# Altium schematic symbol library Op_amp.SchLib: 10 symbols
Pins are listed as number, name and electrical type; pins without a type are passive.

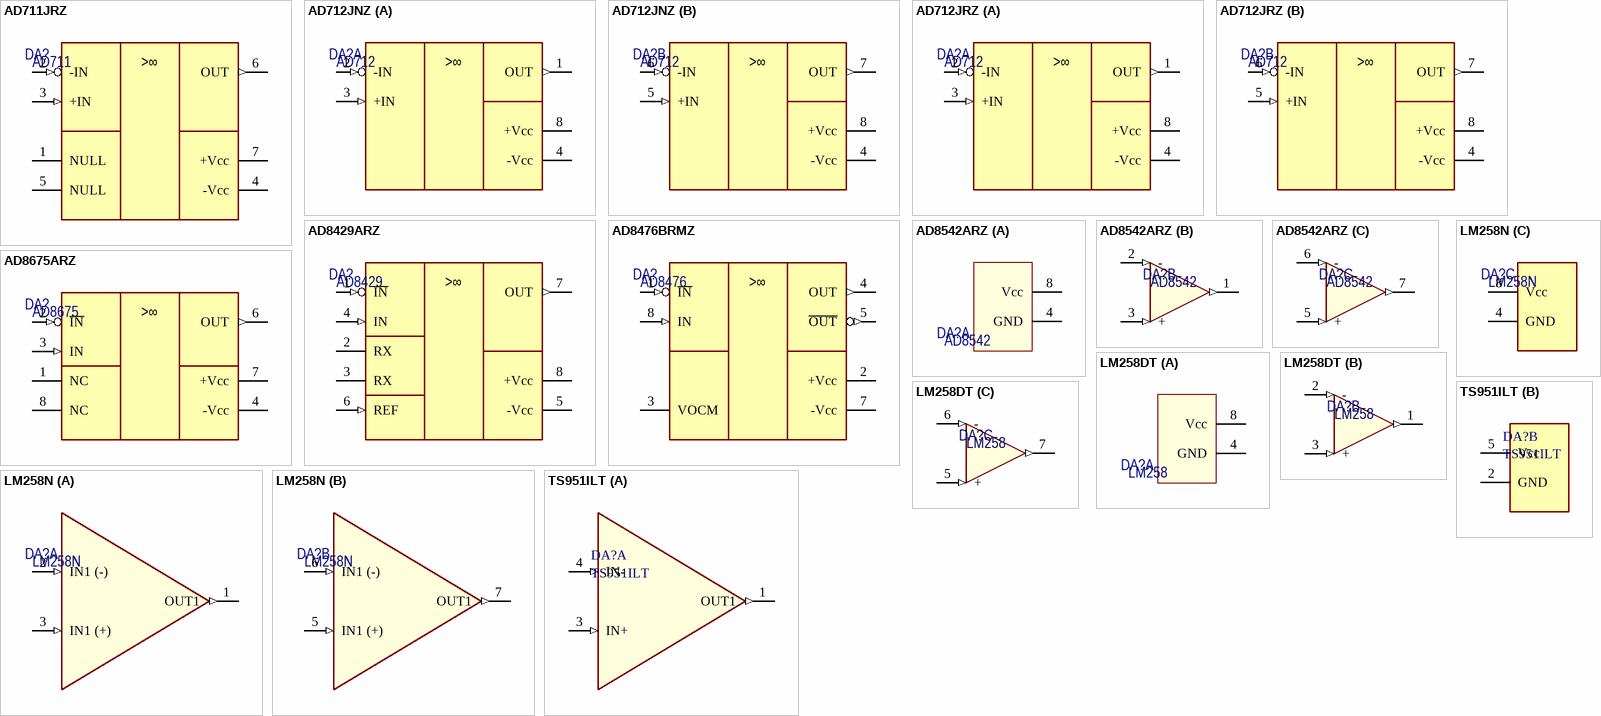
[diagram p0: symbols AD711JRZ to TS951ILT]

## AD711JRZ
designator DA?, comment AD711
Оperational amplifier; Manufacturer: Analog Devices Inc; ManufacturerPartNumber: AD711JRZ; ComponentLink1URL: http://www.analog.com/static/imported-files/data_sheets/AD711.pdf; ComponentLink1Description: Datasheet; Package: SOIC-8; Price: 58,20; Supplier: Аргуссофт
footprint AD711JRZ (8-Lead Standard Small Outline Package [SOIC]  Narrow Body  (RN-8))
pins: 1 NULL, 2 -IN (in), 3 +IN (in), 4 -Vcc (power), 5 NULL, 6 OUT (out), 7 +Vcc (power) "+V"
text: >∞

## AD712JNZ
designator DA?, comment AD712
Оperational amplifier; Manufacturer: Analog Devices Inc; ManufacturerPartNumber: AD712JNZ; ComponentLink1URL: http://www.analog.com/static/imported-files/data_sheets/AD712.pdf; ComponentLink1Description: Datasheet; Package: SOIC-8; Price: 230; Supplier: Аргуссофт; Note: AD712
footprint DIP8
part A pins: 1 OUT (out), 2 -IN (in), 3 +IN (in), 4 -Vcc (power), 8 +Vcc (power) "+V"
part B pins: 4 -Vcc (power), 5 +IN (in), 6 -IN (in), 7 OUT (out), 8 +Vcc (power) "+V"
part A text: >∞
part B text: >∞

## AD712JRZ
designator DA?, comment AD712
Оperational amplifier; Manufacturer: Analog Devices Inc; ManufacturerPartNumber: AD711JRZ; ComponentLink1URL: http://www.analog.com/static/imported-files/data_sheets/AD712.pdf; ComponentLink1Description: Datasheet; Package: SOIC-8; Price: 230; Supplier: Аргуссофт; Note: AD712
footprint AD711JRZ (8-Lead Standard Small Outline Package [SOIC]  Narrow Body  (RN-8))
part A pins: 1 OUT (out), 2 -IN (in), 3 +IN (in), 4 -Vcc (power), 8 +Vcc (power) "+V"
part B pins: 4 -Vcc (power), 5 +IN (in), 6 -IN (in), 7 OUT (out), 8 +Vcc (power) "+V"
part A text: >∞
part B text: >∞

## AD8429ARZ
designator DA?, comment AD8429
Оperational amplifier; Manufacturer: Analog Devices Inc; ManufacturerPartNumber: AD8429ARZ; Package: SOIC-8; ComponentLink1URL: http://www.analog.com/static/imported-files/data_sheets/AD8429.pdf; ComponentLink1Description: Datasheet; Price: 175,76; Supplier: Аргуссофт
footprint AD711JRZ (8-Lead Standard Small Outline Package [SOIC]  Narrow Body  (RN-8))
pins: 1 ~{IN} (in) "-IN", 2 RX "RG", 3 RX "RG", 4 IN (in) "+IN", 5 -Vcc (power) "-Vs", 6 REF (in), 7 OUT (out), 8 +Vcc (power) "+Vs"
text: >∞

## AD8476BRMZ
designator DA?, comment AD8476
Оperational amplifier; Manufacturer: Analog Devices Inc; ManufacturerPartNumber: AD8476BRMZ; Package: MSOP-8; ComponentLink1URL: http://www.analog.com/static/imported-files/data_sheets/AD8476.pdf; ComponentLink1Description: Datasheet; Price: 126,49; Supplier: Аргуссофт
footprint AD8476BRMZ (8-Lead Mini Small Outline Package [MSOP]   (RM-8))
pins: 1 ~{IN} (in) "Negative input", 2 +Vcc (power) "+Vs", 3 VOCM "Output COmmon-MOde Adjust", 4 OUT (out) "Noninverting Output", 5 ~{OUT} (out) "Inverting Output", 7 -Vcc (power) "-Vs", 8 IN (in) "Positive input"
text: >∞

## AD8542ARZ
designator DA?, comment AD8542
ManufacturerPartNumber: AD8542ARZ; Manufacturer: *; Note: *; Price: *; Supplier: *
footprint AD8542ARZ (SOIC, 8-Leads, Body 4,90x3,90mm)
part A pins: 4 GND, 8 Vcc
part B pins: 1 OUT (out), 2 - (in), 3 + (in)
part C pins: 5 + (in), 6 - (in), 7 OUT (out)

## AD8675ARZ
designator DA?, comment AD8675
Оperational amplifier; Manufacturer: Analog Devices Inc; ManufacturerPartNumber: AD8675ARZ; Package: SOIC-8; ComponentLink1URL: http://www.analog.com/static/imported-files/data_sheets/AD8675.pdf; ComponentLink1Description: Datasheet; Supplier: Аргуссофт; Price: 70,88
footprint AD711JRZ (8-Lead Standard Small Outline Package [SOIC]  Narrow Body  (RN-8))
pins: 1 NC "NULL", 2 ~{IN} (in) "-IN", 3 IN (in) "+IN", 4 -Vcc (power) "V-", 6 OUT (out), 7 +Vcc (power) "V+", 8 NC "NULL"
text: >∞

## LM258DT
designator DA?, comment LM258
ManufacturerPartNumber: LM258DT; Manufacturer: Linear; ComponentLink1URL: http://www.promelec.ru/pdf/LM158_LM258_LM358.pdf; ComponentLink1Description: Datasheet; Price: 10.5; Note: *; Supplier: Промэлектроника
footprint AD8542ARZ (SOIC, 8-Leads, Body 4,90x3,90mm)
part A pins: 4 GND, 8 Vcc
part B pins: 1 OUT (out), 2 - (in), 3 + (in)
part C pins: 5 + (in), 6 - (in), 7 OUT (out)

## LM258N
designator DA?
Оperational amplifier x2; Manufacturer: Analog Devices Inc; Package: DIP-8; ComponentLink1URL: https://www.fairchildsemi.com/datasheets/LM/LM258.pdf; ComponentLink1Description: Datasheet; Supplier: Аргуссофт; Price: 70,88; ManufacturerPartNumber: LM258N
footprint DIP8
part A pins: 1 OUT1 (out), 2 IN1 (-) (in), 3 IN1 (+) (in)
part B pins: 5 IN1 (+) (in), 6 IN1 (-) (in), 7 OUT1 (out)
part C pins: 4 GND (power), 8 Vcc (power)

## TS951ILT
designator DA?
IC OPAMP GP 3MHZ RRO SOT23-5; Manufacturer: STMicroelectronics; Max Supply Voltage: 12V; Min Supply Voltage: 2.7V; Voltage Gain: 86dB; Common Mode Rejection Ratio: 50dB; Slew Rate: 1V/µs; Number of Channels: 1; Output Current: 20mA; Nominal Supply Current: 1.4mA; Input Bias Current: 100nA; Input Offset Voltage (Vos): 6mV; Operating Supply Current: 950uA; Output Current per Channel: 10mA; Supplier 1: Mouser; Manufacturer Part Number: TS951ILT; Stock 1: 1554; Pricing 1: 1=0.86, 10=0.734, 50=0.734, 100=0.564, 1000=0.393, 10000=0.336 (USD); Mount: Surface Mount; Case/Package: SOT-23; Number of Pins: 5; Min Operating Temperature: -40°C; Max Operating Temperature: 125°C; Gain Bandwidth Product: 3MHz; Packaging: Tape and Reel; Package Quantity: 1; Max Input Voltage: 12V; Bandwidth: 3MHz; Unity Gain Bandwidth Product: 3MHz; Number of Circuits: 1; Number of Amplifiers: 1; Min Input Voltage: 2.7V; Number of Elements: 1; Length: 3mm; Height: 1.3mm; Width: 1.75mm; Radiation Hardening: No; REACH SVHC: No SVHC; Lead Free: Lead Free; ComponentLink1URL: https://datasheet.ciiva.com/14151/ts951-ts952-ts954-st-tds-eng-14151172.pdf; ComponentLink1Description: https://datasheet.ciiva.com/14151/ts951-ts952-ts954-st-tds-eng-14151172.pdf; ComponentLink2URL: https://datasheet.ciiva.com/26846/ts951ilt-26846550.pdf; ComponentLink2Description: https://datasheet.ciiva.com/26846/ts951ilt-26846550.pdf; ComponentLink3URL: https://datasheet.ciiva.com/16764/cd00001338-16764863.pdf; ComponentLink3Description: https://datasheet.ciiva.com/16764/cd00001338-16764863.pdf; ComponentLink4URL: https://datasheet.ciiva.com/16373/cd00001338-16373925.pdf; ComponentLink4Description: https://datasheet.ciiva.com/16373/cd00001338-16373925.pdf; ComponentLink5URL: https://datasheet.ciiva.com/11709/cd00001338-11709365.pdf; ComponentLink5Description: https://datasheet.ciiva.com/11709/cd00001338-11709365.pdf; ComponentLink6URL: https://datasheet.ciiva.com/1796/cd00001338-1796352.pdf; ComponentLink6Description: https://datasheet.ciiva.com/1796/cd00001338-1796352.pdf; ComponentLink7URL: https://datasheet.ciiva.com/1796/cd00001338-1796353.pdf; ComponentLink7Description: https://datasheet.ciiva.com/1796/cd00001338-1796353.pdf; ComponentLink8URL: https://datasheet.ciiva.com/1796/cd00001338-1796354.pdf; ComponentLink8Description: https://datasheet.ciiva.com/1796/cd00001338-1796354.pdf; ComponentLink9URL: https://datasheet.ciiva.com/41459/001185285-da-01-en-ic-opamp-sgl-r-r-i-ts951ilt-sot-23-5-stm-41459804.pdf; ComponentLink9Description: https://datasheet.ciiva.com/41459/001185285-da-01-en-ic-opamp-sgl-r-r-i-ts951ilt-sot-23-5-stm-41459804.pdf; Supplier Part Number 1: 511-TS951IL
footprint SOT23-5 (SOT23, 5-Leads, Body 2,90x2,80mm, Pitch 0,95mm, IPC Medium Density)
part A pins: 1 OUT1 (out), 3 IN+ (in), 4 IN- (in)
part B pins: 2 GND (power), 5 Vcc (power)